# Altium schematic symbol library Optoisolator-MOC3023S.SchLib: 1 symbol
Pins are listed as number, name and electrical type; pins without a type are passive.

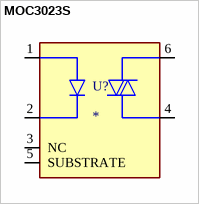
[diagram p0: symbol MOC3023S]

## MOC3023S
designator U?
Optoisolator Triac Output 5000Vrms 1 Channel 6-SMD; MF: Lite-On Inc.; MP: MOC3023S; SnapEDA_Link: https://www.snapeda.com/parts/MOC3023S/Lite-On/view-part/?ref=snap; Package: Package; Value: *; Check_prices: https://www.snapeda.com/parts/MOC3023S/Lite-On/view-part/?ref=eda
footprint SOIC254P1016X400-6N
pins: 1 ANODE, 2 CATHODE, 3 NC, 4 MAIN_TERMINAL1, 5 SUBSTRATE, 6 MAIN_TERMINAL2